# EAGLE library part WS5500_FREE_IO (library ehajo)
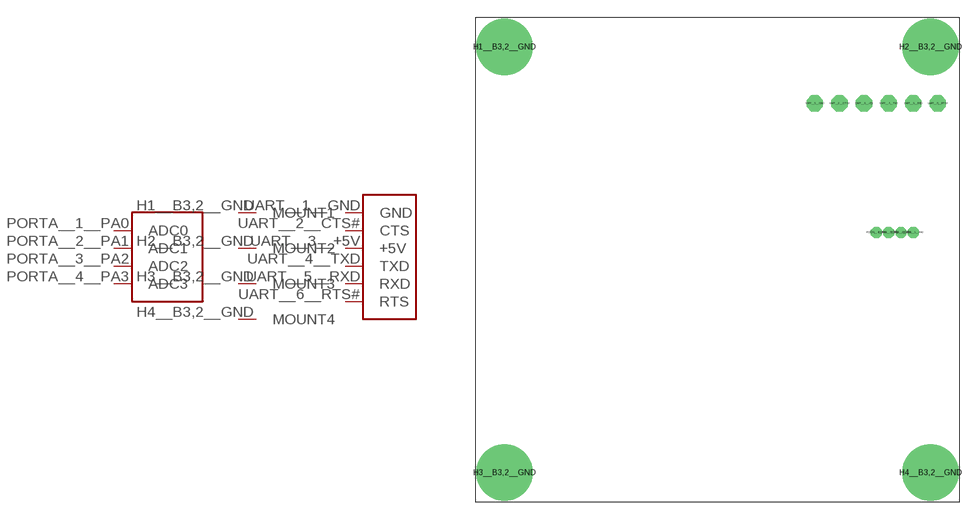
[diagram p1: symbol with the pads of W5500_FREE_IO; footprint W5500_FREE_IO]

Designator prefix -; gates G$1=WS5500_MOUNT G$2=WS5500_ADC G$3=WS5500_UART

## WS5500_FREE_IO  [W5500_FREE_IO]
H1__B3,2__GND  G$1:MOUNT1  pas
H2__B3,2__GND  G$1:MOUNT2  pas
H3__B3,2__GND  G$1:MOUNT3  pas
H4__B3,2__GND  G$1:MOUNT4  pas
PORTA__1__PA0  G$2:ADC0
PORTA__2__PA1  G$2:ADC1
PORTA__3__PA2  G$2:ADC2
PORTA__4__PA3  G$2:ADC3
UART__1__GND  G$3:GND  pwr
UART__2__CTS#  G$3:CTS
UART__3__+5V  G$3:+5V  pwr
UART__4__TXD  G$3:TXD
UART__5__RXD  G$3:RXD
UART__6__RTS#  G$3:RTS

## Footprint W5500_FREE_IO (pad centres in mm)
drill 2.601 pad 4.748: H1__B3,2__GND 2.438,38.202; H2__B3,2__GND 38.202,38.202; H3__B3,2__GND 2.438,2.438; H4__B3,2__GND 38.202,2.438
drill 0.406 pad 0.819 octagon: PORTA__1__PA0 36.748,22.606; PORTA__2__PA1 35.716,22.606; PORTA__3__PA2 34.684,22.606; PORTA__4__PA3 33.652,22.606
drill 0.743 pad 1.363 octagon: UART__1__GND 28.49,33.445; UART__2__CTS# 30.555,33.445; UART__3__+5V 32.619,33.445; UART__4__TXD 34.684,33.445; UART__5__RXD 36.748,33.445; UART__6__RTS# 38.813,33.445